# EAGLE library part M25P16-VMN6P (library Oles komponentbibliotek)
16 Mbit SPI NOR flash memory 75 MHz
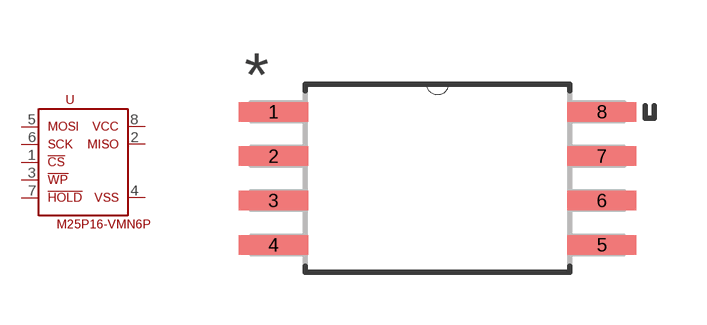
[diagram p60: symbol with the pads of SOIC8; footprint SOIC8]

Designator prefix -

## M25P16-VMN6P  [SOIC8]
1  !CS  in
2  MISO  out
3  !WP  in
4  VSS  pwr
5  MOSI  in
6  SCK  in
7  !HOLD  in
8  VCC  pwr

## Footprint SOIC8 (pad centres in mm)
smd 1.981 x 0.559: 1 -4.699,1.905; 2 -4.699,0.635; 3 -4.699,-0.635; 4 -4.699,-1.905; 5 4.699,-1.905; 6 4.699,-0.635; 7 4.699,0.635; 8 4.699,1.905